# EAGLE library part 19P (library con-dg55)
DEGSON DG55 CONNECTOR
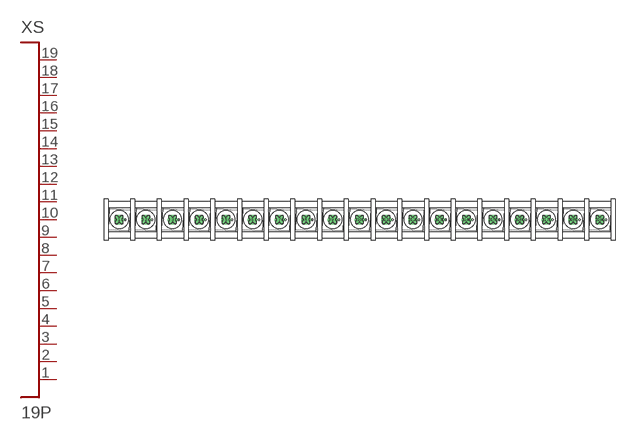
[diagram p13: symbol with the pads of DG55CB-19P-1; footprint DG55CB-19P-1]

Designator prefix XS

## 19P  [DG55CB-19P-1]
1  P$1
2  P$2
3  P$3
4  P$4
5  P$5
6  P$6
7  P$7
8  P$8
9  P$9
10  P$10
11  P$11
12  P$12
13  P$13
14  P$14
15  P$15
16  P$16
17  P$17
18  P$18
19  P$19

## Footprint DG55CB-19P-1 (pad centres in mm)
DG55
drill 1.8 pad 3.6: 1 -90,0; 2 -80,0; 3 -70,0; 4 -60,0; 5 -50,0; 6 -40,0; 7 -30,0; 8 -20,0; 9 -10,0; 10 0,0; 11 10,0; 12 20,0; 13 30,0; 14 40,0; 15 50,0; 16 60,0; 17 70,0; 18 80,0; 19 90,0